# Altium schematic symbol library Capacitor - Aluminium.SchLib: 294 symbols (part 3 of 5)
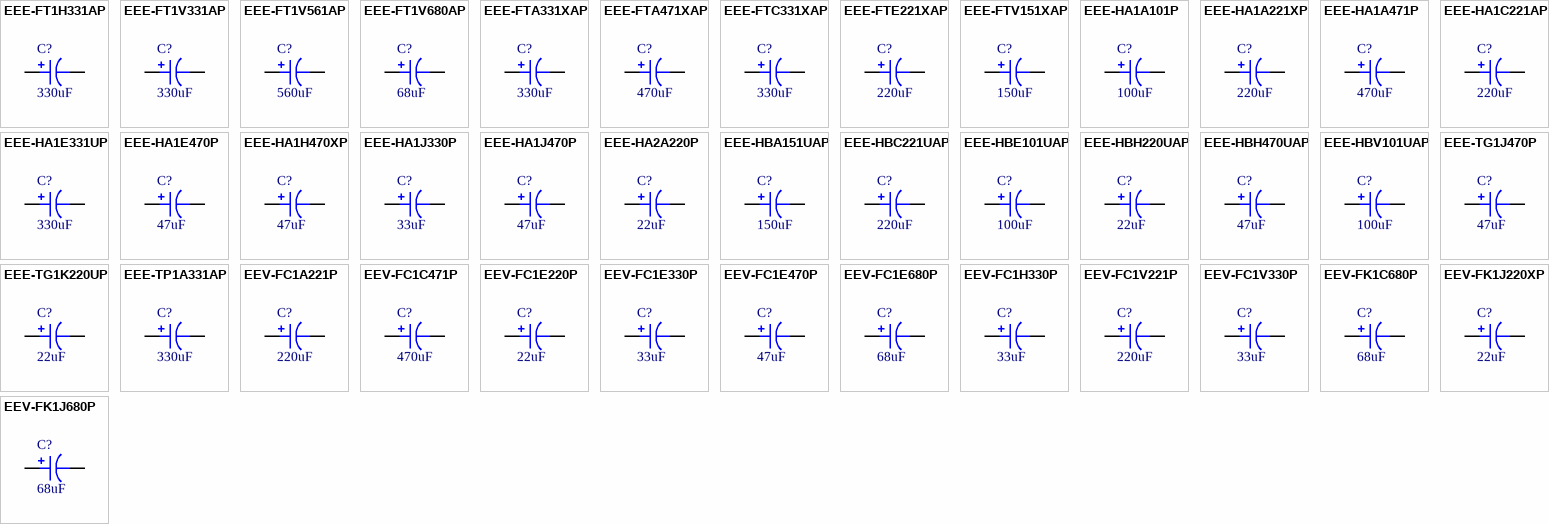
[diagram p9: symbols EEE-FT1H331AP to EEV-FK1J680P]

## EEE-HA1A471P
designator C?, comment 470uF
CAP ALUM 470UF 20% 10V SMD; Part Number: EEE-HA1A471P; Manufacturer: Panasonic Electronic Components; TemperatureRange: -40C ~ 105C; Type: Automotive; Ripple Current: 270mA; Lifetime @ Temp: 1000 Hrs @ 105C; Value: 470uF; PartId: 7422; Supplier 1: Digi-Key; Supplier Part Number 1: PCE4177TR-ND; ComponentLink1Description: Datasheet; ComponentLink1URL: http://industrial.panasonic.com/lecs/www-data/pdf/ABA0000/ABA0000CE3.pdf; ComponentLink2Description: Digi-Key listing; ComponentLink2URL: http://digikey.com/product-detail/en/EEE-HA1A471P/PCE4177TR-ND/814149; Tolerance: 20%; Voltage: 10V; Price: 0.3589; Device Package: Radial, Can - SMD; Impedance: -
footprint CAP ALUM 10.3MM
pins: 1, 2

## EEE-HA1C221AP
designator C?, comment 220uF
CAP ALUM 220UF 20% 16V SMD; Part Number: EEE-HA1C221AP; Manufacturer: Panasonic Electronic Components; TemperatureRange: -40C ~ 105C; Type: Automotive; Ripple Current: 210mA; Lifetime @ Temp: 1000 Hrs @ 105C; Value: 220uF; PartId: 7434; Supplier 1: Digi-Key; Supplier Part Number 1: PCE4656TR-ND; ComponentLink1Description: Datasheet; ComponentLink1URL: http://industrial.panasonic.com/lecs/www-data/pdf/ABA0000/ABA0000CE3.pdf; ComponentLink2Description: Digi-Key listing; ComponentLink2URL: http://digikey.com/product-detail/en/EEE-HA1C221AP/PCE4656TR-ND/1717822; Tolerance: 20%; Voltage: 16V; Price: 0.3961; Device Package: Radial, Can - SMD; Impedance: -
footprint CAP ALUM 10.3MM
pins: 1, 2

## EEE-HA1E331UP
designator C?, comment 330uF
CAP ALUM 330UF 20% 25V SMD; Part Number: EEE-HA1E331UP; Manufacturer: Panasonic Electronic Components; TemperatureRange: -40C ~ 105C; Type: Automotive; Ripple Current: 180mA; Lifetime @ Temp: 1000 Hrs @ 105C; Value: 330uF; PartId: 7342; Supplier 1: Digi-Key; Supplier Part Number 1: PCE4204TR-ND; ComponentLink1Description: Datasheet; ComponentLink1URL: http://industrial.panasonic.com/lecs/www-data/pdf/ABA0000/ABA0000CE3.pdf; ComponentLink2Description: Digi-Key listing; ComponentLink2URL: http://digikey.com/product-detail/en/EEE-HA1E331UP/PCE4204TR-ND/814176; Tolerance: 20%; Voltage: 25V; Price: 0.2791; Device Package: Radial, Can - SMD; Impedance: -
footprint CAP ALUM 8.3MM
pins: 1, 2

## EEE-HA1E470P
designator C?, comment 47uF
CAP ALUM 47UF 20% 25V SMD; Part Number: EEE-HA1E470P; Manufacturer: Panasonic Electronic Components; TemperatureRange: -40C ~ 105C; Type: Automotive; Ripple Current: 91mA; Lifetime @ Temp: 1000 Hrs @ 105C; Value: 47uF; PartId: 7323; Supplier 1: Digi-Key; Supplier Part Number 1: PCE4205TR-ND; ComponentLink1Description: Datasheet; ComponentLink1URL: http://industrial.panasonic.com/lecs/www-data/pdf/ABA0000/ABA0000CE3.pdf; ComponentLink2Description: Digi-Key listing; ComponentLink2URL: http://digikey.com/product-detail/en/EEE-HA1E470P/PCE4205TR-ND/814177; Tolerance: 20%; Voltage: 25V; Price: 0.2012; Device Package: Radial, Can - SMD; Impedance: -
footprint CAP ALUM 8.3MM
pins: 1, 2

## EEE-HA1H470XP
designator C?, comment 47uF
CAP ALUM 47UF 20% 50V SMD; Part Number: EEE-HA1H470XP; Manufacturer: Panasonic Electronic Components; TemperatureRange: -40C ~ 105C; Type: Automotive; Ripple Current: 63mA; Lifetime @ Temp: 1000 Hrs @ 105C; Value: 47uF; PartId: 7238; Supplier 1: Digi-Key; Supplier Part Number 1: PCE4222TR-ND; ComponentLink1Description: Datasheet; ComponentLink1URL: http://industrial.panasonic.com/lecs/www-data/pdf/ABA0000/ABA0000CE3.pdf; ComponentLink2Description: Digi-Key listing; ComponentLink2URL: http://digikey.com/product-detail/en/EEE-HA1H470XP/PCE4222TR-ND/814194; Tolerance: 20%; Voltage: 50V; Price: 0.1649; Device Package: Radial, Can - SMD; Impedance: -
footprint CAP ALUM 6.6MM
pins: 1, 2

## EEE-HA1J330P
designator C?, comment 33uF
CAP ALUM 33UF 20% 63V SMD; Part Number: EEE-HA1J330P; Manufacturer: Panasonic Electronic Components; TemperatureRange: -40C ~ 105C; Type: Automotive; Ripple Current: 45mA; Lifetime @ Temp: 1000 Hrs @ 105C; Value: 33uF; PartId: 7430; Supplier 1: Digi-Key; Supplier Part Number 1: PCE4231TR-ND; ComponentLink1Description: Datasheet; ComponentLink1URL: http://industrial.panasonic.com/lecs/www-data/pdf/ABA0000/ABA0000CE3.pdf; ComponentLink2Description: Digi-Key listing; ComponentLink2URL: http://digikey.com/product-detail/en/EEE-HA1J330P/PCE4231TR-ND/814203; Tolerance: 20%; Voltage: 63V; Price: 0.3747; Device Package: Radial, Can - SMD; Impedance: -
footprint CAP ALUM 10.3MM
pins: 1, 2

## EEE-HA1J470P
designator C?, comment 47uF
CAP ALUM 47UF 20% 63V SMD; Part Number: EEE-HA1J470P; Manufacturer: Panasonic Electronic Components; TemperatureRange: -40C ~ 105C; Type: Automotive; Ripple Current: 50mA; Lifetime @ Temp: 1000 Hrs @ 105C; Value: 47uF; PartId: 7433; Supplier 1: Digi-Key; Supplier Part Number 1: PCE4232TR-ND; ComponentLink1Description: Datasheet; ComponentLink1URL: http://industrial.panasonic.com/lecs/www-data/pdf/ABA0000/ABA0000CE3.pdf; ComponentLink2Description: Digi-Key listing; ComponentLink2URL: http://digikey.com/product-detail/en/EEE-HA1J470P/PCE4232TR-ND/814204; Tolerance: 20%; Voltage: 63V; Price: 0.3822; Device Package: Radial, Can - SMD; Impedance: -
footprint CAP ALUM 10.3MM
pins: 1, 2

## EEE-HA2A220P
designator C?, comment 22uF
CAP ALUM 22UF 20% 100V SMD; Part Number: EEE-HA2A220P; Manufacturer: Panasonic Electronic Components; TemperatureRange: -40C ~ 105C; Type: Automotive; Ripple Current: 60mA; Lifetime @ Temp: 1000 Hrs @ 105C; Value: 22uF; PartId: 7432; Supplier 1: Digi-Key; Supplier Part Number 1: PCE4250TR-ND; ComponentLink1Description: Datasheet; ComponentLink1URL: http://industrial.panasonic.com/lecs/www-data/pdf/ABA0000/ABA0000CE3.pdf; ComponentLink2Description: Digi-Key listing; ComponentLink2URL: http://digikey.com/product-detail/en/EEE-HA2A220P/PCE4250TR-ND/814222; Tolerance: 20%; Voltage: 100V; Price: 0.3822; Device Package: Radial, Can - SMD; Impedance: -
footprint CAP ALUM 10.3MM
pins: 1, 2

## EEE-HBA151UAP
designator C?, comment 150uF
CAP ALUM 150UF 20% 10V SMD; Part Number: EEE-HBA151UAP; Manufacturer: Panasonic Electronic Components; TemperatureRange: -40C ~ 105C; Type: AEC-Q200; Ripple Current: 64mA; Lifetime @ Temp: 2000 Hrs @ 105C; Value: 150uF; PartId: 7259; Supplier 1: Digi-Key; Supplier Part Number 1: PCE4779TR-ND; ComponentLink1Description: Datasheet; ComponentLink1URL: http://industrial.panasonic.com/lecs/www-data/pdf/ABA0000/ABA0000CE117.pdf; ComponentLink2Description: Digi-Key listing; ComponentLink2URL: http://digikey.com/product-detail/en/EEE-HBA151UAP/PCE4779TR-ND/1717945; Tolerance: 20%; Voltage: 10V; Price: 0.2007; Device Package: Radial, Can - SMD; Impedance: -
footprint CAP ALUM 6.6MM
pins: 1, 2

## EEE-HBC221UAP
designator C?, comment 220uF
CAP ALUM 220UF 20% 16V SMD; Part Number: EEE-HBC221UAP; Manufacturer: Panasonic Electronic Components; TemperatureRange: -40C ~ 105C; Type: AEC-Q200; Ripple Current: 150mA; Lifetime @ Temp: 2000 Hrs @ 105C; Value: 220uF; PartId: 7373; Supplier 1: Digi-Key; Supplier Part Number 1: PCE4785TR-ND; ComponentLink1Description: Datasheet; ComponentLink1URL: http://industrial.panasonic.com/lecs/www-data/pdf/ABA0000/ABA0000CE117.pdf; ComponentLink2Description: Digi-Key listing; ComponentLink2URL: http://digikey.com/product-detail/en/EEE-HBC221UAP/PCE4785TR-ND/1717951; Tolerance: 20%; Voltage: 16V; Price: 0.4811; Device Package: Radial, Can - SMD; Impedance: -
footprint CAP ALUM 8.3MM
pins: 1, 2

## EEE-HBE101UAP
designator C?, comment 100uF
CAP ALUM 100UF 20% 25V SMD; Part Number: EEE-HBE101UAP; Manufacturer: Panasonic Electronic Components; TemperatureRange: -40C ~ 105C; Type: AEC-Q200; Ripple Current: 100mA; Lifetime @ Temp: 2000 Hrs @ 105C; Value: 100uF; PartId: 7350; Supplier 1: Digi-Key; Supplier Part Number 1: PCE4790TR-ND; ComponentLink1Description: Datasheet; ComponentLink1URL: http://industrial.panasonic.com/lecs/www-data/pdf/ABA0000/ABA0000CE117.pdf; ComponentLink2Description: Digi-Key listing; ComponentLink2URL: http://digikey.com/product-detail/en/EEE-HBE101UAP/PCE4790TR-ND/1717956; Tolerance: 20%; Voltage: 25V; Price: 0.3178; Device Package: Radial, Can - SMD; Impedance: -
footprint CAP ALUM 8.3MM
pins: 1, 2

## EEE-HBH220UAP
designator C?, comment 22uF
CAP ALUM 22UF 20% 50V SMD; Part Number: EEE-HBH220UAP; Manufacturer: Panasonic Electronic Components; TemperatureRange: -40C ~ 105C; Type: AEC-Q200; Ripple Current: 35mA; Lifetime @ Temp: 2000 Hrs @ 105C; Value: 22uF; PartId: 7258; Supplier 1: Digi-Key; Supplier Part Number 1: PCE4797TR-ND; ComponentLink1Description: Datasheet; ComponentLink1URL: http://industrial.panasonic.com/lecs/www-data/pdf/ABA0000/ABA0000CE117.pdf; ComponentLink2Description: Digi-Key listing; ComponentLink2URL: http://digikey.com/product-detail/en/EEE-HBH220UAP/PCE4797TR-ND/1717963; Tolerance: 20%; Voltage: 50V; Price: 0.2007; Device Package: Radial, Can - SMD; Impedance: -
footprint CAP ALUM 6.6MM
pins: 1, 2

## EEE-HBH470UAP
designator C?, comment 47uF
CAP ALUM 47UF 20% 50V SMD; Part Number: EEE-HBH470UAP; Manufacturer: Panasonic Electronic Components; TemperatureRange: -40C ~ 105C; Type: AEC-Q200; Ripple Current: 95mA; Lifetime @ Temp: 2000 Hrs @ 105C; Value: 47uF; PartId: 7372; Supplier 1: Digi-Key; Supplier Part Number 1: PCE4799TR-ND; ComponentLink1Description: Datasheet; ComponentLink1URL: http://industrial.panasonic.com/lecs/www-data/pdf/ABA0000/ABA0000CE117.pdf; ComponentLink2Description: Digi-Key listing; ComponentLink2URL: http://digikey.com/product-detail/en/EEE-HBH470UAP/PCE4799TR-ND/1717965; Tolerance: 20%; Voltage: 50V; Price: 0.4717; Device Package: Radial, Can - SMD; Impedance: -
footprint CAP ALUM 8.3MM
pins: 1, 2

## EEE-HBV101UAP
designator C?, comment 100uF
CAP ALUM 100UF 20% 35V SMD; Part Number: EEE-HBV101UAP; Manufacturer: Panasonic Electronic Components; TemperatureRange: -40C ~ 105C; Type: AEC-Q200; Ripple Current: 98mA; Lifetime @ Temp: 2000 Hrs @ 105C; Value: 100uF; PartId: 7371; Supplier 1: Digi-Key; Supplier Part Number 1: PCE4807TR-ND; ComponentLink1Description: Datasheet; ComponentLink1URL: http://industrial.panasonic.com/lecs/www-data/pdf/ABA0000/ABA0000CE117.pdf; ComponentLink2Description: Digi-Key listing; ComponentLink2URL: http://digikey.com/product-detail/en/EEE-HBV101UAP/PCE4807TR-ND/1717973; Tolerance: 20%; Voltage: 35V; Price: 0.4717; Device Package: Radial, Can - SMD; Impedance: -
footprint CAP ALUM 8.3MM
pins: 1, 2

## EEE-TG1J470P
designator C?, comment 47uF
CAP ALUM 47UF 20% 63V SMD; Part Number: EEE-TG1J470P; Manufacturer: Panasonic Electronic Components; TemperatureRange: -40C ~ 125C; Type: AEC-Q200; Ripple Current: 97.5mA; Lifetime @ Temp: 2000 Hrs @ 125C; Value: 47uF; PartId: 7463; Supplier 1: Digi-Key; Supplier Part Number 1: PCE4092TR-ND; ComponentLink1Description: Datasheet; ComponentLink1URL: http://industrial.panasonic.com/www-cgi/jvcr13pz.cgi?E+PZ+3+ABA0101+EEETG1J470P+7+WW; ComponentLink2Description: Digi-Key listing; ComponentLink2URL: http://digikey.com/product-detail/en/EEE-TG1J470P/PCE4092TR-ND/817668; Tolerance: 20%; Voltage: 63V; Price: 0.5969; Device Package: Radial, Can - SMD; Impedance: -
footprint CAP ALUM 10.3MM
pins: 1, 2

## EEE-TG1K220UP
designator C?, comment 22uF
CAP ALUM 22UF 20% 80V SMD; Part Number: EEE-TG1K220UP; Manufacturer: Panasonic Electronic Components; TemperatureRange: -40C ~ 125C; Type: Automotive; Ripple Current: 45.5mA; Lifetime @ Temp: 2000 Hrs @ 125C; Value: 22uF; PartId: 7376; Supplier 1: Digi-Key; Supplier Part Number 1: PCE4099TR-ND; ComponentLink1Description: Datasheet; ComponentLink1URL: http://industrial.panasonic.com/www-cgi/jvcr13pz.cgi?E+PZ+3+ABA0101+EEETG1K220UP+7+WW; ComponentLink2Description: Digi-Key listing; ComponentLink2URL: http://digikey.com/product-detail/en/EEE-TG1K220UP/PCE4099TR-ND/817675; Tolerance: 20%; Voltage: 80V; Price: 0.5104; Device Package: Radial, Can - SMD; Impedance: -
footprint CAP ALUM 8.3MM
pins: 1, 2

## EEE-TP1A331AP
designator C?, comment 330uF
CAP ALUM 330UF 20% 10V SMD; Part Number: EEE-TP1A331AP; Manufacturer: Panasonic Electronic Components; TemperatureRange: -40C ~ 125C; Type: Automotive; Ripple Current: 325mA; Lifetime @ Temp: 3000 Hrs @ 125C; Value: 330uF; PartId: 7469; Supplier 1: Digi-Key; Supplier Part Number 1: PCE4922TR-ND; ComponentLink1Description: Datasheet; ComponentLink1URL: http://industrial.panasonic.com/www-cgi/jvcr13pz.cgi?E+PZ+3+ABA0122+EEETP1A331AP+7+WW; ComponentLink2Description: Digi-Key listing; ComponentLink2URL: http://digikey.com/product-detail/en/EEE-TP1A331AP/PCE4922TR-ND/1975580; Tolerance: 20%; Voltage: 10V; Price: 0.6825; Device Package: Radial, Can - SMD; Impedance: -
footprint CAP ALUM 10.3MM
pins: 1, 2

## EEV-FC1A221P
designator C?, comment 220uF
CAP ALUM 220UF 20% 10V SMD; Part Number: EEV-FC1A221P; Manufacturer: Panasonic Electronic Components; TemperatureRange: -40C ~ 105C; Type: AEC-Q200; Ripple Current: 337.5mA; Impedance: 300 mOhm; Lifetime @ Temp: 1000 Hrs @ 105C; Value: 220uF; PartId: 7359; Supplier 1: Digi-Key; Supplier Part Number 1: PCE3099TR-ND; ComponentLink1Description: Datasheet; ComponentLink1URL: http://media.digikey.com/pdf/Data%20Sheets/Panasonic%20Capacitors%20PDFs/EEV-FC.pdf; ComponentLink2Description: Digi-Key listing; ComponentLink2URL: http://digikey.com/product-detail/en/EEV-FC1A221P/PCE3099TR-ND/247942; Tolerance: 20%; Voltage: 10V; Price: 0.3474; Device Package: Radial, Can - SMD
footprint CAP ALUM 8.3MM
pins: 1, 2

## EEV-FC1C471P
designator C?, comment 470uF
CAP ALUM 470UF 20% 16V SMD; Part Number: EEV-FC1C471P; Manufacturer: Panasonic Electronic Components; TemperatureRange: -40C ~ 105C; Type: AEC-Q200; Ripple Current: 502.5mA; Impedance: 150 mOhm; Lifetime @ Temp: 1000 Hrs @ 105C; Value: 470uF; PartId: 7436; Supplier 1: Digi-Key; Supplier Part Number 1: PCE3246TR-ND; ComponentLink1Description: Datasheet; ComponentLink1URL: http://media.digikey.com/pdf/Data%20Sheets/Panasonic%20Capacitors%20PDFs/EEV-FC.pdf; ComponentLink2Description: Digi-Key listing; ComponentLink2URL: http://digikey.com/product-detail/en/EEV-FC1C471P/PCE3246TR-ND/273811; Tolerance: 20%; Voltage: 16V; Price: 0.4069; Device Package: Radial, Can - SMD
footprint CAP ALUM 10.3MM
pins: 1, 2

## EEV-FC1E220P
designator C?, comment 22uF
CAP ALUM 22UF 20% 25V SMD; Part Number: EEV-FC1E220P; Manufacturer: Panasonic Electronic Components; TemperatureRange: -40C ~ 105C; Type: AEC-Q200; Ripple Current: 105mA; Impedance: 1 Ohm; Lifetime @ Temp: 1000 Hrs @ 105C; Value: 22uF; PartId: 7226; Supplier 1: Digi-Key; Supplier Part Number 1: PCE3109TR-ND; ComponentLink1Description: Datasheet; ComponentLink1URL: http://media.digikey.com/pdf/Data%20Sheets/Panasonic%20Capacitors%20PDFs/EEV-FC.pdf; ComponentLink2Description: Digi-Key listing; ComponentLink2URL: http://digikey.com/product-detail/en/EEV-FC1E220P/PCE3109TR-ND/247952; Tolerance: 20%; Voltage: 25V; Price: 0.1464; Device Package: Radial, Can - SMD
footprint CAP ALUM 6.6MM
pins: 1, 2

## EEV-FC1E330P
designator C?, comment 33uF
CAP ALUM 33UF 20% 25V SMD; Part Number: EEV-FC1E330P; Manufacturer: Panasonic Electronic Components; TemperatureRange: -40C ~ 105C; Type: AEC-Q200; Ripple Current: 105mA; Impedance: 1 Ohm; Lifetime @ Temp: 1000 Hrs @ 105C; Value: 33uF; PartId: 7225; Supplier 1: Digi-Key; Supplier Part Number 1: PCE3110TR-ND; ComponentLink1Description: Datasheet; ComponentLink1URL: http://media.digikey.com/pdf/Data%20Sheets/Panasonic%20Capacitors%20PDFs/EEV-FC.pdf; ComponentLink2Description: Digi-Key listing; ComponentLink2URL: http://digikey.com/product-detail/en/EEV-FC1E330P/PCE3110TR-ND/247953; Tolerance: 20%; Voltage: 25V; Price: 0.1464; Device Package: Radial, Can - SMD
footprint CAP ALUM 6.6MM
pins: 1, 2

## EEV-FC1E470P
designator C?, comment 47uF
CAP ALUM 47UF 20% 25V SMD; Part Number: EEV-FC1E470P; Manufacturer: Panasonic Electronic Components; TemperatureRange: -40C ~ 105C; Type: AEC-Q200; Ripple Current: 172.5mA; Impedance: 400 mOhm; Lifetime @ Temp: 1000 Hrs @ 105C; Value: 47uF; PartId: 7290; Supplier 1: Digi-Key; Supplier Part Number 1: PCE3111TR-ND; ComponentLink1Description: Datasheet; ComponentLink1URL: http://media.digikey.com/pdf/Data%20Sheets/Panasonic%20Capacitors%20PDFs/EEV-FC.pdf; ComponentLink2Description: Digi-Key listing; ComponentLink2URL: http://digikey.com/product-detail/en/EEV-FC1E470P/PCE3111TR-ND/247954; Tolerance: 20%; Voltage: 25V; Price: 0.2394; Device Package: Radial, Can - SMD
footprint CAP ALUM 8.3MM
pins: 1, 2

## EEV-FC1E680P
designator C?, comment 68uF
CAP ALUM 68UF 20% 25V SMD; Part Number: EEV-FC1E680P; Manufacturer: Panasonic Electronic Components; TemperatureRange: -40C ~ 105C; Type: AEC-Q200; Ripple Current: 337.5mA; Impedance: 300 mOhm; Lifetime @ Temp: 1000 Hrs @ 105C; Value: 68uF; PartId: 7357; Supplier 1: Digi-Key; Supplier Part Number 1: PCE3112TR-ND; ComponentLink1Description: Datasheet; ComponentLink1URL: http://media.digikey.com/pdf/Data%20Sheets/Panasonic%20Capacitors%20PDFs/EEV-FC.pdf; ComponentLink2Description: Digi-Key listing; ComponentLink2URL: http://digikey.com/product-detail/en/EEV-FC1E680P/PCE3112TR-ND/247955; Tolerance: 20%; Voltage: 25V; Price: 0.3474; Device Package: Radial, Can - SMD
footprint CAP ALUM 8.3MM
pins: 1, 2

## EEV-FC1H330P
designator C?, comment 33uF
CAP ALUM 33UF 20% 50V SMD; Part Number: EEV-FC1H330P; Manufacturer: Panasonic Electronic Components; TemperatureRange: -40C ~ 105C; Type: AEC-Q200; Ripple Current: 225mA; Impedance: 600 mOhm; Lifetime @ Temp: 1000 Hrs @ 105C; Value: 33uF; PartId: 7358; Supplier 1: Digi-Key; Supplier Part Number 1: PCE3258TR-ND; ComponentLink1Description: Datasheet; ComponentLink1URL: http://media.digikey.com/pdf/Data%20Sheets/Panasonic%20Capacitors%20PDFs/EEV-FC.pdf; ComponentLink2Description: Digi-Key listing; ComponentLink2URL: http://digikey.com/product-detail/en/EEV-FC1H330P/PCE3258TR-ND/273806; Tolerance: 20%; Voltage: 50V; Price: 0.3474; Device Package: Radial, Can - SMD
footprint CAP ALUM 8.3MM
pins: 1, 2

## EEV-FC1V221P
designator C?, comment 220uF
CAP ALUM 220UF 20% 35V SMD; Part Number: EEV-FC1V221P; Manufacturer: Panasonic Electronic Components; TemperatureRange: -40C ~ 105C; Type: AEC-Q200; Ripple Current: 502.5mA; Impedance: 150 mOhm; Lifetime @ Temp: 1000 Hrs @ 105C; Value: 220uF; PartId: 7437; Supplier 1: Digi-Key; Supplier Part Number 1: PCE3250TR-ND; ComponentLink1Description: Datasheet; ComponentLink1URL: http://media.digikey.com/pdf/Data%20Sheets/Panasonic%20Capacitors%20PDFs/EEV-FC.pdf; ComponentLink2Description: Digi-Key listing; ComponentLink2URL: http://digikey.com/product-detail/en/EEV-FC1V221P/PCE3250TR-ND/273808; Tolerance: 20%; Voltage: 35V; Price: 0.4069; Device Package: Radial, Can - SMD
footprint CAP ALUM 10.3MM
pins: 1, 2

## EEV-FC1V330P
designator C?, comment 33uF
CAP ALUM 33UF 20% 35V SMD; Part Number: EEV-FC1V330P; Manufacturer: Panasonic Electronic Components; TemperatureRange: -40C ~ 105C; Type: AEC-Q200; Ripple Current: 172.5mA; Impedance: 400 mOhm; Lifetime @ Temp: 1000 Hrs @ 105C; Value: 33uF; PartId: 7291; Supplier 1: Digi-Key; Supplier Part Number 1: PCE3120TR-ND; ComponentLink1Description: Datasheet; ComponentLink1URL: http://media.digikey.com/pdf/Data%20Sheets/Panasonic%20Capacitors%20PDFs/EEV-FC.pdf; ComponentLink2Description: Digi-Key listing; ComponentLink2URL: http://digikey.com/product-detail/en/EEV-FC1V330P/PCE3120TR-ND/247963; Tolerance: 20%; Voltage: 35V; Price: 0.2394; Device Package: Radial, Can - SMD
footprint CAP ALUM 8.3MM
pins: 1, 2

## EEV-FK1C680P
designator C?, comment 68uF
CAP ALUM 68UF 20% 16V SMD; Part Number: EEV-FK1C680P; Manufacturer: Panasonic Electronic Components; TemperatureRange: -55C ~ 105C; Type: Automotive; Ripple Current: 240mA; Impedance: 360 mOhm; Lifetime @ Temp: 2000 Hrs @ 105C; Value: 68uF; PartId: 7239; Supplier 1: Digi-Key; Supplier Part Number 1: PCE3511TR-ND; ComponentLink1Description: Datasheet; ComponentLink1URL: http://media.digikey.com/pdf/Data%20Sheets/Panasonic%20Capacitors%20PDFs/EEV-FK%20Series.pdf; ComponentLink2Description: Digi-Key listing; ComponentLink2URL: http://digikey.com/product-detail/en/EEV-FK1C680P/PCE3511TR-ND/465434; Tolerance: 20%; Voltage: 16V; Price: 0.1673; Device Package: Radial, Can - SMD
footprint CAP ALUM 6.6MM
pins: 1, 2

## EEV-FK1J220XP
designator C?, comment 22uF
CAP ALUM 22UF 20% 63V SMD; Part Number: EEV-FK1J220XP; Manufacturer: Panasonic Electronic Components; TemperatureRange: -55C ~ 105C; Type: Automotive; Ripple Current: 120mA; Impedance: 1.2 Ohm; Lifetime @ Temp: 2000 Hrs @ 105C; Value: 22uF; PartId: 7264; Supplier 1: Digi-Key; Supplier Part Number 1: PCE3524TR-ND; ComponentLink1Description: Datasheet; ComponentLink1URL: http://media.digikey.com/pdf/Data%20Sheets/Panasonic%20Capacitors%20PDFs/EEV-FK%20Series.pdf; ComponentLink2Description: Digi-Key listing; ComponentLink2URL: http://digikey.com/product-detail/en/EEV-FK1J220XP/PCE3524TR-ND/465447; Tolerance: 20%; Voltage: 63V; Price: 0.2535; Device Package: Radial, Can - SMD
footprint CAP ALUM 6.6MM
pins: 1, 2

## EEV-FK1J680P
designator C?, comment 68uF
CAP ALUM 68UF 20% 63V SMD; Part Number: EEV-FK1J680P; Manufacturer: Panasonic Electronic Components; TemperatureRange: -55C ~ 105C; Type: Automotive; Ripple Current: 400mA; Impedance: 350 mOhm; Lifetime @ Temp: 2000 Hrs @ 105C; Value: 68uF; PartId: 7449; Supplier 1: Digi-Key; Supplier Part Number 1: PCE3525TR-ND; ComponentLink1Description: Datasheet; ComponentLink1URL: http://media.digikey.com/pdf/Data%20Sheets/Panasonic%20Capacitors%20PDFs/EEV-FK%20Series.pdf; ComponentLink2Description: Digi-Key listing; ComponentLink2URL: http://digikey.com/product-detail/en/EEV-FK1J680P/PCE3525TR-ND/465448; Tolerance: 20%; Voltage: 63V; Price: 0.4637; Device Package: Radial, Can - SMD
footprint CAP ALUM 10.3MM
pins: 1, 2

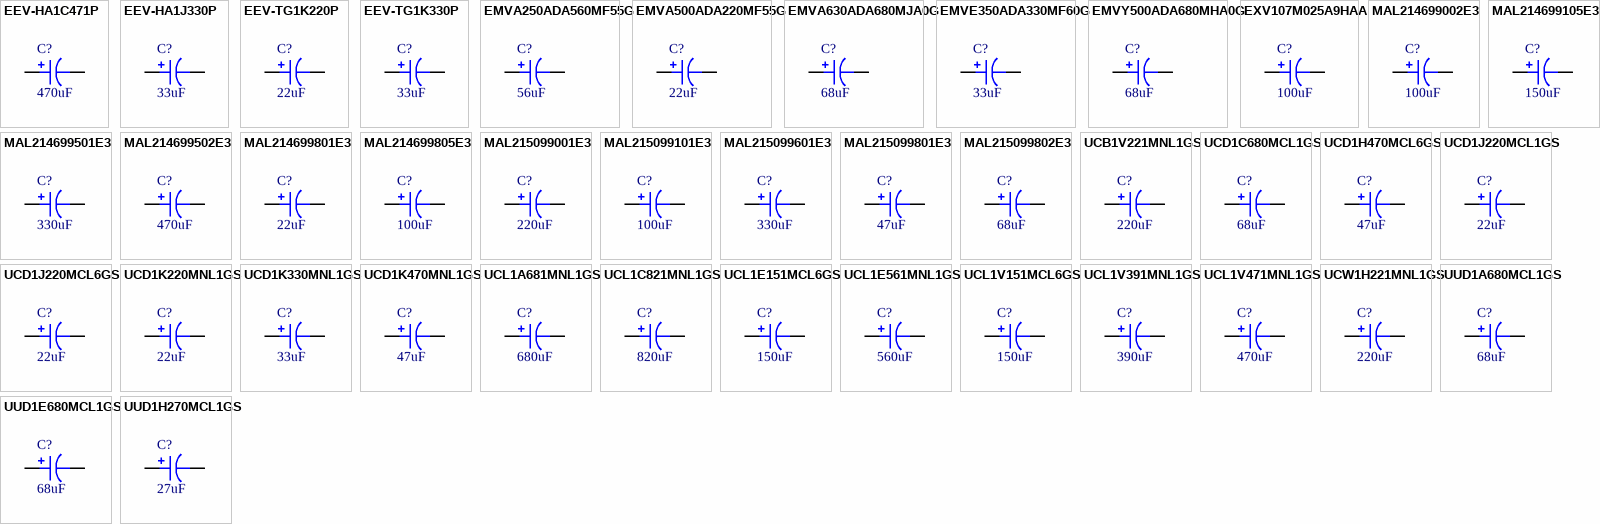
[diagram p4: symbols EEV-HA1C471P to UUD1H270MCL1GS]

## EEV-HA1C471P
designator C?, comment 470uF
CAP ALUM 470UF 20% 16V SMD; Part Number: EEV-HA1C471P; Manufacturer: Panasonic Electronic Components; TemperatureRange: -40C ~ 105C; Type: General Purpose; Ripple Current: 340mA; Lifetime @ Temp: 2000 Hrs @ 105C; Value: 470uF; PartId: 7413; Supplier 1: Digi-Key; Supplier Part Number 1: PCE3216TR-ND; ComponentLink1Description: Datasheet; ComponentLink1URL: http://media.digikey.com/pdf/Data%20Sheets/Panasonic%20Capacitors%20PDFs/EEV-HA%20(HA%20Series).pdf; ComponentLink2Description: Digi-Key listing; ComponentLink2URL: http://digikey.com/product-detail/en/EEV-HA1C471P/PCE3216TR-ND/273798; Tolerance: 20%; Voltage: 16V; Price: 0.3343; Device Package: Radial, Can - SMD; Impedance: -
footprint CAP ALUM 10.3MM
pins: 1, 2

## EEV-HA1J330P
designator C?, comment 33uF
CAP ALUM 33UF 20% 63V SMD; Part Number: EEV-HA1J330P; Manufacturer: Panasonic Electronic Components; TemperatureRange: -40C ~ 105C; Type: General Purpose; Ripple Current: 45mA; Lifetime @ Temp: 2000 Hrs @ 105C; Value: 33uF; PartId: 7427; Supplier 1: Digi-Key; Supplier Part Number 1: PCE3236TR-ND; ComponentLink1Description: Datasheet; ComponentLink1URL: http://media.digikey.com/pdf/Data%20Sheets/Panasonic%20Capacitors%20PDFs/EEV-HA%20(HA%20Series).pdf; ComponentLink2Description: Digi-Key listing; ComponentLink2URL: http://digikey.com/product-detail/en/EEV-HA1J330P/PCE3236TR-ND/273801; Tolerance: 20%; Voltage: 63V; Price: 0.3668; Device Package: Radial, Can - SMD; Impedance: -
footprint CAP ALUM 10.3MM
pins: 1, 2

## EEV-TG1K220P
designator C?, comment 22uF
CAP ALUM 22UF 20% 80V SMD; Part Number: EEV-TG1K220P; Manufacturer: Panasonic Electronic Components; TemperatureRange: -40C ~ 125C; Type: General Purpose; Ripple Current: 90mA; Lifetime @ Temp: 2000 Hrs @ 125C; Value: 22uF; PartId: 7460; Supplier 1: Digi-Key; Supplier Part Number 1: PCE3671TR-ND; ComponentLink1Description: Datasheet; ComponentLink1URL: http://media.digikey.com/pdf/Data%20Sheets/Panasonic%20Electronic%20Components/TG_Series_Type_V.pdf; ComponentLink2Description: Digi-Key listing; ComponentLink2URL: http://digikey.com/product-detail/en/EEV-TG1K220P/PCE3671TR-ND/615971; Tolerance: 20%; Voltage: 80V; Price: 0.5465; Device Package: Radial, Can - SMD; Impedance: -
footprint CAP ALUM 10.3MM
pins: 1, 2

## EEV-TG1K330P
designator C?, comment 33uF
CAP ALUM 33UF 20% 80V SMD; Part Number: EEV-TG1K330P; Manufacturer: Panasonic Electronic Components; TemperatureRange: -40C ~ 125C; Type: General Purpose; Ripple Current: 90mA; Lifetime @ Temp: 2000 Hrs @ 125C; Value: 33uF; PartId: 7461; Supplier 1: Digi-Key; Supplier Part Number 1: PCE3675TR-ND; ComponentLink1Description: Datasheet; ComponentLink1URL: http://media.digikey.com/pdf/Data%20Sheets/Panasonic%20Electronic%20Components/TG_Series_Type_V.pdf; ComponentLink2Description: Digi-Key listing; ComponentLink2URL: http://digikey.com/product-detail/en/EEV-TG1K330P/PCE3675TR-ND/615975; Tolerance: 20%; Voltage: 80V; Price: 0.5465; Device Package: Radial, Can - SMD; Impedance: -
footprint CAP ALUM 10.3MM
pins: 1, 2

## EMVA250ADA560MF55G
designator C?, comment 56uF
CAP ALUM 56UF 20% 25V SMD; Part Number: EMVA250ADA560MF55G; Manufacturer: United Chemi-Con; TemperatureRange: -40C ~ 85C; Type: General Purpose; Ripple Current: 66mA; Lifetime @ Temp: 2000 Hrs @ 85C; Value: 56uF; PartId: 7206; Supplier 1: Digi-Key; Supplier Part Number 1: 565-2104-2-ND; ComponentLink1Description: Datasheet; ComponentLink1URL: http://www.chemi-con.co.jp/cgi-bin/CAT_DB/SEARCH/cat_db_al.cgi?e=e&j=p&pdfname=mva; ComponentLink2Description: Digi-Key listing; ComponentLink2URL: http://digikey.com/product-detail/en/EMVA250ADA560MF55G/565-2104-2-ND/756751; Tolerance: 20%; Voltage: 25V; Price: 0.1199; Device Package: Radial, Can - SMD; Impedance: -
footprint CAP ALUM 6.6MM
pins: 1, 2

## EMVA500ADA220MF55G
designator C?, comment 22uF
CAP ALUM 22UF 20% 50V SMD; Part Number: EMVA500ADA220MF55G; Manufacturer: United Chemi-Con; TemperatureRange: -40C ~ 85C; Type: General Purpose; Ripple Current: 47mA; Lifetime @ Temp: 2000 Hrs @ 85C; Value: 22uF; PartId: 7205; Supplier 1: Digi-Key; Supplier Part Number 1: 565-2130-2-ND; ComponentLink1Description: Datasheet; ComponentLink1URL: http://www.chemi-con.co.jp/cgi-bin/CAT_DB/SEARCH/cat_db_al.cgi?e=e&j=p&pdfname=mva; ComponentLink2Description: Digi-Key listing; ComponentLink2URL: http://digikey.com/product-detail/en/EMVA500ADA220MF55G/565-2130-2-ND/756776; Tolerance: 20%; Voltage: 50V; Price: 0.1199; Device Package: Radial, Can - SMD; Impedance: -
footprint CAP ALUM 6.6MM
pins: 1, 2

## EMVA630ADA680MJA0G
designator C?, comment 68uF
CAP ALUM 68UF 20% 63V SMD; Part Number: EMVA630ADA680MJA0G; Manufacturer: United Chemi-Con; TemperatureRange: -40C ~ 85C; Type: General Purpose; Ripple Current: 170mA; Lifetime @ Temp: 2000 Hrs @ 85C; Value: 68uF; PartId: 7456; Supplier 1: Digi-Key; Supplier Part Number 1: 565-2153-2-ND; ComponentLink1Description: Datasheet; ComponentLink1URL: http://www.chemi-con.co.jp/cgi-bin/CAT_DB/SEARCH/cat_db_al.cgi?e=e&j=p&pdfname=mva; ComponentLink2Description: Digi-Key listing; ComponentLink2URL: http://digikey.com/product-detail/en/EMVA630ADA680MJA0G/565-2153-2-ND/756799; Tolerance: 20%; Voltage: 63V; Price: 0.4957; Device Package: Radial, Can - SMD; Impedance: -
footprint CAP ALUM 10.3MM
pins: 1, 2

## EMVE350ADA330MF60G
designator C?, comment 33uF
CAP ALUM 33UF 20% 35V SMD; Part Number: EMVE350ADA330MF60G; Manufacturer: United Chemi-Con; TemperatureRange: -40C ~ 105C; Type: General Purpose; Ripple Current: 54mA; Lifetime @ Temp: 1000 Hrs @ 105C; Value: 33uF; PartId: 7216; Supplier 1: Digi-Key; Supplier Part Number 1: 565-2232-2-ND; ComponentLink1Description: Datasheet; ComponentLink1URL: http://media.digikey.com/pdf/Data%20Sheets/United%20Chemi-Con%20PDFs/MVE%20Series.pdf; ComponentLink2Description: Digi-Key listing; ComponentLink2URL: http://digikey.com/product-detail/en/EMVE350ADA330MF60G/565-2232-2-ND/756878; Tolerance: 20%; Voltage: 35V; Price: 0.1335; Device Package: Radial, Can - SMD; Impedance: -
footprint CAP ALUM 6.6MM
pins: 1, 2

## EMVY500ADA680MHA0G
designator C?, comment 68uF
CAP ALUM 68UF 20% 50V SMD; Part Number: EMVY500ADA680MHA0G; Manufacturer: United Chemi-Con; TemperatureRange: -55C ~ 105C; Type: General Purpose; Ripple Current: 300mA; Impedance: 600 mOhm; Lifetime @ Temp: 2000 Hrs @ 105C; Value: 68uF; PartId: 7362; Supplier 1: Digi-Key; Supplier Part Number 1: 565-2494-2-ND; ComponentLink1Description: Datasheet; ComponentLink1URL: http://www.chemi-con.co.jp/cgi-bin/CAT_DB/SEARCH/cat_db_al.cgi?e=e&j=p&pdfname=mvy; ComponentLink2Description: Digi-Key listing; ComponentLink2URL: http://digikey.com/product-detail/en/EMVY500ADA680MHA0G/565-2494-2-ND/757139; Tolerance: 20%; Voltage: 50V; Price: 0.3586; Device Package: Radial, Can - SMD
footprint CAP ALUM 8.3MM
pins: 1, 2

## EXV107M025A9HAA
designator C?, comment 100uF
CAP ALUM 100UF 20% 25V SMD; Part Number: EXV107M025A9HAA; Manufacturer: Kemet; TemperatureRange: -40C ~ 105C; Type: Audio; Ripple Current: 300mA; Impedance: 260 mOhm; Lifetime @ Temp: 3000 Hrs @ 105C; Value: 100uF; PartId: 7261; Supplier 1: Digi-Key; Supplier Part Number 1: 399-11443-2-ND; ComponentLink1Description: Datasheet; ComponentLink1URL: http://www.kemet.com/docfinder?Partnumber=EXV; ComponentLink2Description: Digi-Key listing; ComponentLink2URL: http://digikey.com/product-detail/en/EXV107M025A9HAA/399-11443-2-ND/4975994; Tolerance: 20%; Voltage: 25V; Price: 0.2251; Device Package: Radial, Can - SMD
footprint CAP ALUM 6.6MM
pins: 1, 2

## MAL214699002E3
designator C?, comment 100uF
CAP ALUM 100UF 20% 35V SMD; Part Number: MAL214699002E3; Manufacturer: Vishay BC Components; TemperatureRange: -55C ~ 125C; Type: Automotive AEC-Q200; Ripple Current: 750mA; Impedance: 150 mOhm; Lifetime @ Temp: 1500 Hrs @ 125C; Value: 100uF; PartId: 7480; Supplier 1: Digi-Key; Supplier Part Number 1: 4425PHTR-ND; ComponentLink1Description: Datasheet; ComponentLink1URL: http://www.vishay.com/docs/28403/146cti.pdf; ComponentLink2Description: Digi-Key listing; ComponentLink2URL: http://digikey.com/product-detail/en/MAL214699002E3/4425PHTR-ND/2410290; Tolerance: 20%; Voltage: 35V; Price: 1.3678; Device Package: Radial, Can - SMD
footprint CAP ALUM 10.3MM
pins: 1, 2

## MAL214699105E3
designator C?, comment 150uF
CAP ALUM 150UF 20% 50V SMD; Part Number: MAL214699105E3; Manufacturer: Vishay BC Components; TemperatureRange: -55C ~ 125C; Type: Automotive AEC-Q200; Ripple Current: 700mA; Impedance: 170 mOhm; Lifetime @ Temp: 2000 Hrs @ 125C; Value: 150uF; PartId: 7482; Supplier 1: Digi-Key; Supplier Part Number 1: 4439PHTR-ND; ComponentLink1Description: Datasheet; ComponentLink1URL: http://www.vishay.com/docs/28403/146cti.pdf; ComponentLink2Description: Digi-Key listing; ComponentLink2URL: http://digikey.com/product-detail/en/MAL214699105E3/4439PHTR-ND/2410304; Tolerance: 20%; Voltage: 50V; Price: 1.6704; Device Package: Radial, Can - SMD
footprint CAP ALUM 10.3MM
pins: 1, 2

## MAL214699501E3
designator C?, comment 330uF
CAP ALUM 330UF 20% 16V SMD; Part Number: MAL214699501E3; Manufacturer: Vishay BC Components; TemperatureRange: -55C ~ 125C; Type: Automotive AEC-Q200; Ripple Current: 750mA; Impedance: 150 mOhm; Lifetime @ Temp: 1500 Hrs @ 125C; Value: 330uF; PartId: 7478; Supplier 1: Digi-Key; Supplier Part Number 1: 4405PHTR-ND; ComponentLink1Description: Datasheet; ComponentLink1URL: http://www.vishay.com/docs/28403/146cti.pdf; ComponentLink2Description: Digi-Key listing; ComponentLink2URL: http://digikey.com/product-detail/en/MAL214699501E3/4405PHTR-ND/2410270; Tolerance: 20%; Voltage: 16V; Price: 1.3678; Device Package: Radial, Can - SMD
footprint CAP ALUM 10.3MM
pins: 1, 2

## MAL214699502E3
designator C?, comment 470uF
CAP ALUM 470UF 20% 16V SMD; Part Number: MAL214699502E3; Manufacturer: Vishay BC Components; TemperatureRange: -55C ~ 125C; Type: Automotive AEC-Q200; Ripple Current: 900mA; Impedance: 97 mOhm; Lifetime @ Temp: 2000 Hrs @ 125C; Value: 470uF; PartId: 7483; Supplier 1: Digi-Key; Supplier Part Number 1: 4406PHTR-ND; ComponentLink1Description: Datasheet; ComponentLink1URL: http://www.vishay.com/docs/28403/146cti.pdf; ComponentLink2Description: Digi-Key listing; ComponentLink2URL: http://digikey.com/product-detail/en/MAL214699502E3/4406PHTR-ND/2410271; Tolerance: 20%; Voltage: 16V; Price: 1.6704; Device Package: Radial, Can - SMD
footprint CAP ALUM 10.3MM
pins: 1, 2

## MAL214699801E3
designator C?, comment 22uF
CAP ALUM 22UF 20% 63V SMD; Part Number: MAL214699801E3; Manufacturer: Vishay BC Components; TemperatureRange: -55C ~ 125C; Type: Automotive AEC-Q200; Ripple Current: 400mA; Impedance: 430 mOhm; Lifetime @ Temp: 1500 Hrs @ 125C; Value: 22uF; PartId: 7479; Supplier 1: Digi-Key; Supplier Part Number 1: 4447PHTR-ND; ComponentLink1Description: Datasheet; ComponentLink1URL: http://www.vishay.com/docs/28403/146cti.pdf; ComponentLink2Description: Digi-Key listing; ComponentLink2URL: http://digikey.com/product-detail/en/MAL214699801E3/4447PHTR-ND/2410312; Tolerance: 20%; Voltage: 63V; Price: 1.3678; Device Package: Radial, Can - SMD
footprint CAP ALUM 10.3MM
pins: 1, 2

## MAL214699805E3
designator C?, comment 100uF
CAP ALUM 100UF 20% 63V SMD; Part Number: MAL214699805E3; Manufacturer: Vishay BC Components; TemperatureRange: -55C ~ 125C; Type: Automotive AEC-Q200; Ripple Current: 550mA; Impedance: 290 mOhm; Lifetime @ Temp: 2000 Hrs @ 125C; Value: 100uF; PartId: 7481; Supplier 1: Digi-Key; Supplier Part Number 1: 4451PHTR-ND; ComponentLink1Description: Datasheet; ComponentLink1URL: http://www.vishay.com/docs/28403/146cti.pdf; ComponentLink2Description: Digi-Key listing; ComponentLink2URL: http://digikey.com/product-detail/en/MAL214699805E3/4451PHTR-ND/2410316; Tolerance: 20%; Voltage: 63V; Price: 1.6704; Device Package: Radial, Can - SMD
footprint CAP ALUM 10.3MM
pins: 1, 2

## MAL215099001E3
designator C?, comment 220uF
CAP ALUM 220UF 20% 35V SMD; Part Number: MAL215099001E3; Manufacturer: Vishay BC Components; TemperatureRange: -55C ~ 105C; Type: Automotive AEC-Q200; Ripple Current: 630mA; Impedance: 150 mOhm; Lifetime @ Temp: 2500 Hrs @ 105C; Value: 220uF; PartId: 7473; Supplier 1: Digi-Key; Supplier Part Number 1: 4396PHTR-ND; ComponentLink1Description: Datasheet; ComponentLink1URL: http://www.vishay.com/docs/28395/150crz.pdf; ComponentLink2Description: Digi-Key listing; ComponentLink2URL: http://digikey.com/product-detail/en/MAL215099001E3/4396PHTR-ND/2410261; Tolerance: 20%; Voltage: 35V; Price: 1.146; Device Package: Radial, Can - SMD
footprint CAP ALUM 10.3MM
pins: 1, 2

## MAL215099101E3
designator C?, comment 100uF
CAP ALUM 100UF 20% 50V SMD; Part Number: MAL215099101E3; Manufacturer: Vishay BC Components; TemperatureRange: -55C ~ 105C; Type: Automotive AEC-Q200; Ripple Current: 490mA; Impedance: 240 mOhm; Lifetime @ Temp: 2500 Hrs @ 105C; Value: 100uF; PartId: 7476; Supplier 1: Digi-Key; Supplier Part Number 1: 4399PHTR-ND; ComponentLink1Description: Datasheet; ComponentLink1URL: http://www.vishay.com/docs/28395/150crz.pdf; ComponentLink2Description: Digi-Key listing; ComponentLink2URL: http://digikey.com/product-detail/en/MAL215099101E3/4399PHTR-ND/2410264; Tolerance: 20%; Voltage: 50V; Price: 1.146; Device Package: Radial, Can - SMD
footprint CAP ALUM 10.3MM
pins: 1, 2

## MAL215099601E3
designator C?, comment 330uF
CAP ALUM 330UF 20% 25V SMD; Part Number: MAL215099601E3; Manufacturer: Vishay BC Components; TemperatureRange: -55C ~ 105C; Type: Automotive AEC-Q200; Ripple Current: 640mA; Impedance: 140 mOhm; Lifetime @ Temp: 2500 Hrs @ 105C; Value: 330uF; PartId: 7474; Supplier 1: Digi-Key; Supplier Part Number 1: 4393PHTR-ND; ComponentLink1Description: Datasheet; ComponentLink1URL: http://www.vishay.com/docs/28395/150crz.pdf; ComponentLink2Description: Digi-Key listing; ComponentLink2URL: http://digikey.com/product-detail/en/MAL215099601E3/4393PHTR-ND/2410258; Tolerance: 20%; Voltage: 25V; Price: 1.146; Device Package: Radial, Can - SMD
footprint CAP ALUM 10.3MM
pins: 1, 2

## MAL215099801E3
designator C?, comment 47uF
CAP ALUM 47UF 20% 63V SMD; Part Number: MAL215099801E3; Manufacturer: Vishay BC Components; TemperatureRange: -55C ~ 105C; Type: Automotive AEC-Q200; Ripple Current: 390mA; Impedance: 380 mOhm; Lifetime @ Temp: 2500 Hrs @ 105C; Value: 47uF; PartId: 7477; Supplier 1: Digi-Key; Supplier Part Number 1: 4401PHTR-ND; ComponentLink1Description: Datasheet; ComponentLink1URL: http://www.vishay.com/docs/28395/150crz.pdf; ComponentLink2Description: Digi-Key listing; ComponentLink2URL: http://digikey.com/product-detail/en/MAL215099801E3/4401PHTR-ND/2410266; Tolerance: 20%; Voltage: 63V; Price: 1.146; Device Package: Radial, Can - SMD
footprint CAP ALUM 10.3MM
pins: 1, 2

## MAL215099802E3
designator C?, comment 68uF
CAP ALUM 68UF 20% 63V SMD; Part Number: MAL215099802E3; Manufacturer: Vishay BC Components; TemperatureRange: -55C ~ 105C; Type: Automotive AEC-Q200; Ripple Current: 390mA; Impedance: 380 mOhm; Lifetime @ Temp: 2500 Hrs @ 105C; Value: 68uF; PartId: 7475; Supplier 1: Digi-Key; Supplier Part Number 1: 4402PHTR-ND; ComponentLink1Description: Datasheet; ComponentLink1URL: http://www.vishay.com/docs/28395/150crz.pdf; ComponentLink2Description: Digi-Key listing; ComponentLink2URL: http://digikey.com/product-detail/en/MAL215099802E3/4402PHTR-ND/2410267; Tolerance: 20%; Voltage: 63V; Price: 1.146; Device Package: Radial, Can - SMD
footprint CAP ALUM 10.3MM
pins: 1, 2

## UCB1V221MNL1GS
designator C?, comment 220uF
CAP ALUM 220UF 20% 35V SMD; Part Number: UCB1V221MNL1GS; Manufacturer: Nichicon; TemperatureRange: -25C ~ 105C; Type: General Purpose; Ripple Current: 216mA; Lifetime @ Temp: 7000 Hrs @ 105C; Value: 220uF; PartId: 7406; Supplier 1: Digi-Key; Supplier Part Number 1: 493-9379-2-ND; ComponentLink1Description: Datasheet; ComponentLink1URL: http://nichicon-us.com/english/products/pdfs/e-cb.pdf; ComponentLink2Description: Digi-Key listing; ComponentLink2URL: http://digikey.com/product-detail/en/UCB1V221MNL1GS/493-9379-2-ND/2549599; Tolerance: 20%; Voltage: 35V; Price: 0.3242; Device Package: Radial, Can - SMD; Impedance: -
footprint CAP ALUM 10.3MM
pins: 1, 2

## UCD1C680MCL1GS
designator C?, comment 68uF
CAP ALUM 68UF 20% 16V SMD; Part Number: UCD1C680MCL1GS; Manufacturer: Nichicon; TemperatureRange: -55C ~ 105C; Type: General Purpose; Ripple Current: 240mA; Impedance: 360 mOhm; Lifetime @ Temp: 2000 Hrs @ 105C; Value: 68uF; PartId: 7230; Supplier 1: Digi-Key; Supplier Part Number 1: 493-6373-2-ND; ComponentLink1Description: Datasheet; ComponentLink1URL: http://nichicon-us.com/english/products/pdfs/e-cd.pdf; ComponentLink2Description: Digi-Key listing; ComponentLink2URL: http://digikey.com/product-detail/en/UCD1C680MCL1GS/493-6373-2-ND/2549657; Tolerance: 20%; Voltage: 16V; Price: 0.1559; Device Package: Radial, Can - SMD
footprint CAP ALUM 6.6MM
pins: 1, 2

## UCD1H470MCL6GS
designator C?, comment 47uF
CAP ALUM 47UF 20% 50V SMD; Part Number: UCD1H470MCL6GS; Manufacturer: Nichicon; TemperatureRange: -55C ~ 105C; Type: General Purpose; Ripple Current: 195mA; Impedance: 660 mOhm; Lifetime @ Temp: 2000 Hrs @ 105C; Value: 47uF; PartId: 7318; Supplier 1: Digi-Key; Supplier Part Number 1: 493-6184-2-ND; ComponentLink1Description: Datasheet; ComponentLink1URL: http://nichicon-us.com/english/products/pdfs/e-cd.pdf; ComponentLink2Description: Digi-Key listing; ComponentLink2URL: http://digikey.com/product-detail/en/UCD1H470MCL6GS/493-6184-2-ND/3439292; Tolerance: 20%; Voltage: 50V; Price: 0.1924; Device Package: Radial, Can - SMD
footprint CAP ALUM 8.3MM
pins: 1, 2

## UCD1J220MCL1GS
designator C?, comment 22uF
CAP ALUM 22UF 20% 63V SMD; Part Number: UCD1J220MCL1GS; Manufacturer: Nichicon; TemperatureRange: -55C ~ 105C; Type: General Purpose; Ripple Current: 120mA; Impedance: 1.2 Ohm; Lifetime @ Temp: 2000 Hrs @ 105C; Value: 22uF; PartId: 7250; Supplier 1: Digi-Key; Supplier Part Number 1: 493-6397-2-ND; ComponentLink1Description: Datasheet; ComponentLink1URL: http://nichicon-us.com/english/products/pdfs/e-cd.pdf; ComponentLink2Description: Digi-Key listing; ComponentLink2URL: http://digikey.com/product-detail/en/UCD1J220MCL1GS/493-6397-2-ND/2549695; Tolerance: 20%; Voltage: 63V; Price: 0.1846; Device Package: Radial, Can - SMD
footprint CAP ALUM 6.6MM
pins: 1, 2

## UCD1J220MCL6GS
designator C?, comment 22uF
CAP ALUM 22UF 20% 63V SMD; Part Number: UCD1J220MCL6GS; Manufacturer: Nichicon; TemperatureRange: -55C ~ 105C; Type: General Purpose; Ripple Current: 120mA; Impedance: 1.2 Ohm; Lifetime @ Temp: 2000 Hrs @ 105C; Value: 22uF; PartId: 7317; Supplier 1: Digi-Key; Supplier Part Number 1: 493-6398-2-ND; ComponentLink1Description: Datasheet; ComponentLink1URL: http://nichicon-us.com/english/products/pdfs/e-cd.pdf; ComponentLink2Description: Digi-Key listing; ComponentLink2URL: http://digikey.com/product-detail/en/UCD1J220MCL6GS/493-6398-2-ND/2549696; Tolerance: 20%; Voltage: 63V; Price: 0.1902; Device Package: Radial, Can - SMD
footprint CAP ALUM 8.3MM
pins: 1, 2

## UCD1K220MNL1GS
designator C?, comment 22uF
CAP ALUM 22UF 20% 80V SMD; Part Number: UCD1K220MNL1GS; Manufacturer: Nichicon; TemperatureRange: -55C ~ 105C; Type: General Purpose; Ripple Current: 130mA; Impedance: 1.3 Ohm; Lifetime @ Temp: 2000 Hrs @ 105C; Value: 22uF; PartId: 7365; Supplier 1: Digi-Key; Supplier Part Number 1: 493-6410-2-ND; ComponentLink1Description: Datasheet; ComponentLink1URL: http://nichicon-us.com/english/products/pdfs/e-cd.pdf; ComponentLink2Description: Digi-Key listing; ComponentLink2URL: http://digikey.com/product-detail/en/UCD1K220MNL1GS/493-6410-2-ND/2549708; Tolerance: 20%; Voltage: 80V; Price: 0.3804; Device Package: Radial, Can - SMD
footprint CAP ALUM 8.3MM
pins: 1, 2

## UCD1K330MNL1GS
designator C?, comment 33uF
CAP ALUM 33UF 20% 80V SMD; Part Number: UCD1K330MNL1GS; Manufacturer: Nichicon; TemperatureRange: -55C ~ 105C; Type: General Purpose; Ripple Current: 130mA; Impedance: 1.3 Ohm; Lifetime @ Temp: 2000 Hrs @ 105C; Value: 33uF; PartId: 7364; Supplier 1: Digi-Key; Supplier Part Number 1: 493-6411-2-ND; ComponentLink1Description: Datasheet; ComponentLink1URL: http://nichicon-us.com/english/products/pdfs/e-cd.pdf; ComponentLink2Description: Digi-Key listing; ComponentLink2URL: http://digikey.com/product-detail/en/UCD1K330MNL1GS/493-6411-2-ND/2549709; Tolerance: 20%; Voltage: 80V; Price: 0.3804; Device Package: Radial, Can - SMD
footprint CAP ALUM 8.3MM
pins: 1, 2

## UCD1K470MNL1GS
designator C?, comment 47uF
CAP ALUM 47UF 20% 80V SMD; Part Number: UCD1K470MNL1GS; Manufacturer: Nichicon; TemperatureRange: -55C ~ 105C; Type: General Purpose; Ripple Current: 200mA; Impedance: 700 mOhm; Lifetime @ Temp: 2000 Hrs @ 105C; Value: 47uF; PartId: 7455; Supplier 1: Digi-Key; Supplier Part Number 1: 493-6414-2-ND; ComponentLink1Description: Datasheet; ComponentLink1URL: http://nichicon-us.com/english/products/pdfs/e-cd.pdf; ComponentLink2Description: Digi-Key listing; ComponentLink2URL: http://digikey.com/product-detail/en/UCD1K470MNL1GS/493-6414-2-ND/2549712; Tolerance: 20%; Voltage: 80V; Price: 0.4838; Device Package: Radial, Can - SMD
footprint CAP ALUM 10.3MM
pins: 1, 2

## UCL1A681MNL1GS
designator C?, comment 680uF
CAP ALUM 680UF 20% 10V SMD; Part Number: UCL1A681MNL1GS; Manufacturer: Nichicon; TemperatureRange: -55C ~ 105C; Type: General Purpose; Ripple Current: 850mA; Impedance: 80 mOhm; Lifetime @ Temp: 2000 Hrs @ 105C; Value: 680uF; PartId: 7369; Supplier 1: Digi-Key; Supplier Part Number 1: 493-3909-2-ND; ComponentLink1Description: Datasheet; ComponentLink1URL: http://nichicon-us.com/english/products/pdfs/e-cl.pdf; ComponentLink2Description: Digi-Key listing; ComponentLink2URL: http://digikey.com/product-detail/en/UCL1A681MNL1GS/493-3909-2-ND/2300258; Tolerance: 20%; Voltage: 10V; Price: 0.4151; Device Package: Radial, Can - SMD
footprint CAP ALUM 8.3MM
pins: 1, 2

## UCL1C821MNL1GS
designator C?, comment 820uF
CAP ALUM 820UF 20% 16V SMD; Part Number: UCL1C821MNL1GS; Manufacturer: Nichicon; TemperatureRange: -55C ~ 105C; Type: General Purpose; Ripple Current: 850mA; Impedance: 80 mOhm; Lifetime @ Temp: 2000 Hrs @ 105C; Value: 820uF; PartId: 7464; Supplier 1: Digi-Key; Supplier Part Number 1: 493-3929-2-ND; ComponentLink1Description: Datasheet; ComponentLink1URL: http://nichicon-us.com/english/products/pdfs/e-cl.pdf; ComponentLink2Description: Digi-Key listing; ComponentLink2URL: http://digikey.com/product-detail/en/UCL1C821MNL1GS/493-3929-2-ND/2300278; Tolerance: 20%; Voltage: 16V; Price: 0.6067; Device Package: Radial, Can - SMD
footprint CAP ALUM 10.3MM
pins: 1, 2

## UCL1E151MCL6GS
designator C?, comment 150uF
CAP ALUM 150UF 20% 25V SMD; Part Number: UCL1E151MCL6GS; Manufacturer: Nichicon; TemperatureRange: -55C ~ 105C; Type: General Purpose; Ripple Current: 850mA; Impedance: 100 mOhm; Lifetime @ Temp: 2000 Hrs @ 105C; Value: 150uF; PartId: 7459; Supplier 1: Digi-Key; Supplier Part Number 1: 493-3940-2-ND; ComponentLink1Description: Datasheet; ComponentLink1URL: http://nichicon-us.com/english/products/pdfs/e-cl.pdf; ComponentLink2Description: Digi-Key listing; ComponentLink2URL: http://digikey.com/product-detail/en/UCL1E151MCL6GS/493-3940-2-ND/2300289; Tolerance: 20%; Voltage: 25V; Price: 0.5285; Device Package: Radial, Can - SMD
footprint CAP ALUM 10.3MM
pins: 1, 2

## UCL1E561MNL1GS
designator C?, comment 560uF
CAP ALUM 560UF 20% 25V SMD; Part Number: UCL1E561MNL1GS; Manufacturer: Nichicon; TemperatureRange: -55C ~ 105C; Type: General Purpose; Ripple Current: 850mA; Impedance: 80 mOhm; Lifetime @ Temp: 2000 Hrs @ 105C; Value: 560uF; PartId: 7466; Supplier 1: Digi-Key; Supplier Part Number 1: 493-3945-2-ND; ComponentLink1Description: Datasheet; ComponentLink1URL: http://nichicon-us.com/english/products/pdfs/e-cl.pdf; ComponentLink2Description: Digi-Key listing; ComponentLink2URL: http://digikey.com/product-detail/en/UCL1E561MNL1GS/493-3945-2-ND/2300294; Tolerance: 20%; Voltage: 25V; Price: 0.6067; Device Package: Radial, Can - SMD
footprint CAP ALUM 10.3MM
pins: 1, 2

## UCL1V151MCL6GS
designator C?, comment 150uF
CAP ALUM 150UF 20% 35V SMD; Part Number: UCL1V151MCL6GS; Manufacturer: Nichicon; TemperatureRange: -55C ~ 105C; Type: General Purpose; Ripple Current: 850mA; Impedance: 100 mOhm; Lifetime @ Temp: 2000 Hrs @ 105C; Value: 150uF; PartId: 7458; Supplier 1: Digi-Key; Supplier Part Number 1: 493-3956-2-ND; ComponentLink1Description: Datasheet; ComponentLink1URL: http://nichicon-us.com/english/products/pdfs/e-cl.pdf; ComponentLink2Description: Digi-Key listing; ComponentLink2URL: http://digikey.com/product-detail/en/UCL1V151MCL6GS/493-3956-2-ND/2300305; Tolerance: 20%; Voltage: 35V; Price: 0.5285; Device Package: Radial, Can - SMD
footprint CAP ALUM 10.3MM
pins: 1, 2

## UCL1V391MNL1GS
designator C?, comment 390uF
CAP ALUM 390UF 20% 35V SMD; Part Number: UCL1V391MNL1GS; Manufacturer: Nichicon; TemperatureRange: -55C ~ 105C; Type: General Purpose; Ripple Current: 850mA; Impedance: 80 mOhm; Lifetime @ Temp: 2000 Hrs @ 105C; Value: 390uF; PartId: 7465; Supplier 1: Digi-Key; Supplier Part Number 1: 493-3960-2-ND; ComponentLink1Description: Datasheet; ComponentLink1URL: http://nichicon-us.com/english/products/pdfs/e-cl.pdf; ComponentLink2Description: Digi-Key listing; ComponentLink2URL: http://digikey.com/product-detail/en/UCL1V391MNL1GS/493-3960-2-ND/2300309; Tolerance: 20%; Voltage: 35V; Price: 0.6067; Device Package: Radial, Can - SMD
footprint CAP ALUM 10.3MM
pins: 1, 2

## UCL1V471MNL1GS
designator C?, comment 470uF
CAP ALUM 470UF 20% 35V SMD; Part Number: UCL1V471MNL1GS; Manufacturer: Nichicon; TemperatureRange: -55C ~ 105C; Type: General Purpose; Ripple Current: 1.19A; Impedance: 60 mOhm; Lifetime @ Temp: 2000 Hrs @ 105C; Value: 470uF; PartId: 7462; Supplier 1: Digi-Key; Supplier Part Number 1: 493-3961-2-ND; ComponentLink1Description: Datasheet; ComponentLink1URL: http://nichicon-us.com/english/products/pdfs/e-cl.pdf; ComponentLink2Description: Digi-Key listing; ComponentLink2URL: http://digikey.com/product-detail/en/UCL1V471MNL1GS/493-3961-2-ND/2300310; Tolerance: 20%; Voltage: 35V; Price: 0.5735; Device Package: Radial, Can - SMD
footprint CAP ALUM 10.3MM
pins: 1, 2

## UCW1H221MNL1GS
designator C?, comment 220uF
CAP ALUM 220UF 20% 50V SMD; Part Number: UCW1H221MNL1GS; Manufacturer: Nichicon; TemperatureRange: -25C ~ 105C; Type: General Purpose; Ripple Current: 335mA; Impedance: 350 mOhm; Lifetime @ Temp: 7000 Hrs @ 105C; Value: 220uF; PartId: 7405; Supplier 1: Digi-Key; Supplier Part Number 1: 493-9426-2-ND; ComponentLink1Description: Datasheet; ComponentLink1URL: http://nichicon-us.com/english/products/pdfs/e-cw.pdf; ComponentLink2Description: Digi-Key listing; ComponentLink2URL: http://digikey.com/product-detail/en/UCW1H221MNL1GS/493-9426-2-ND/2549783; Tolerance: 20%; Voltage: 50V; Price: 0.3242; Device Package: Radial, Can - SMD
footprint CAP ALUM 10.3MM
pins: 1, 2

## UUD1A680MCL1GS
designator C?, comment 68uF
CAP ALUM 68UF 20% 10V SMD; Part Number: UUD1A680MCL1GS; Manufacturer: Nichicon; TemperatureRange: -55C ~ 105C; Type: General Purpose; Ripple Current: 230mA; Impedance: 440 mOhm; Lifetime @ Temp: 2000 Hrs @ 105C; Value: 68uF; PartId: 7229; Supplier 1: Digi-Key; Supplier Part Number 1: 493-2247-2-ND; ComponentLink1Description: Datasheet; ComponentLink1URL: http://nichicon-us.com/english/products/pdfs/e-ud.pdf; ComponentLink2Description: Digi-Key listing; ComponentLink2URL: http://digikey.com/product-detail/en/UUD1A680MCL1GS/493-2247-2-ND/589988; Tolerance: 20%; Voltage: 10V; Price: 0.1559; Device Package: Radial, Can - SMD
footprint CAP ALUM 6.6MM
pins: 1, 2

## UUD1E680MCL1GS
designator C?, comment 68uF
CAP ALUM 68UF 20% 25V SMD; Part Number: UUD1E680MCL1GS; Manufacturer: Nichicon; TemperatureRange: -55C ~ 105C; Type: General Purpose; Ripple Current: 230mA; Impedance: 440 mOhm; Lifetime @ Temp: 2000 Hrs @ 105C; Value: 68uF; PartId: 7237; Supplier 1: Digi-Key; Supplier Part Number 1: 493-2275-2-ND; ComponentLink1Description: Datasheet; ComponentLink1URL: http://nichicon-us.com/english/products/pdfs/e-ud.pdf; ComponentLink2Description: Digi-Key listing; ComponentLink2URL: http://digikey.com/product-detail/en/UUD1E680MCL1GS/493-2275-2-ND/590016; Tolerance: 20%; Voltage: 25V; Price: 0.1632; Device Package: Radial, Can - SMD
footprint CAP ALUM 6.6MM
pins: 1, 2